# Altium schematic symbol library S7CAS-APP1.SchLib: 26 symbols
Pins are listed as number, name and electrical type; pins without a type are passive.

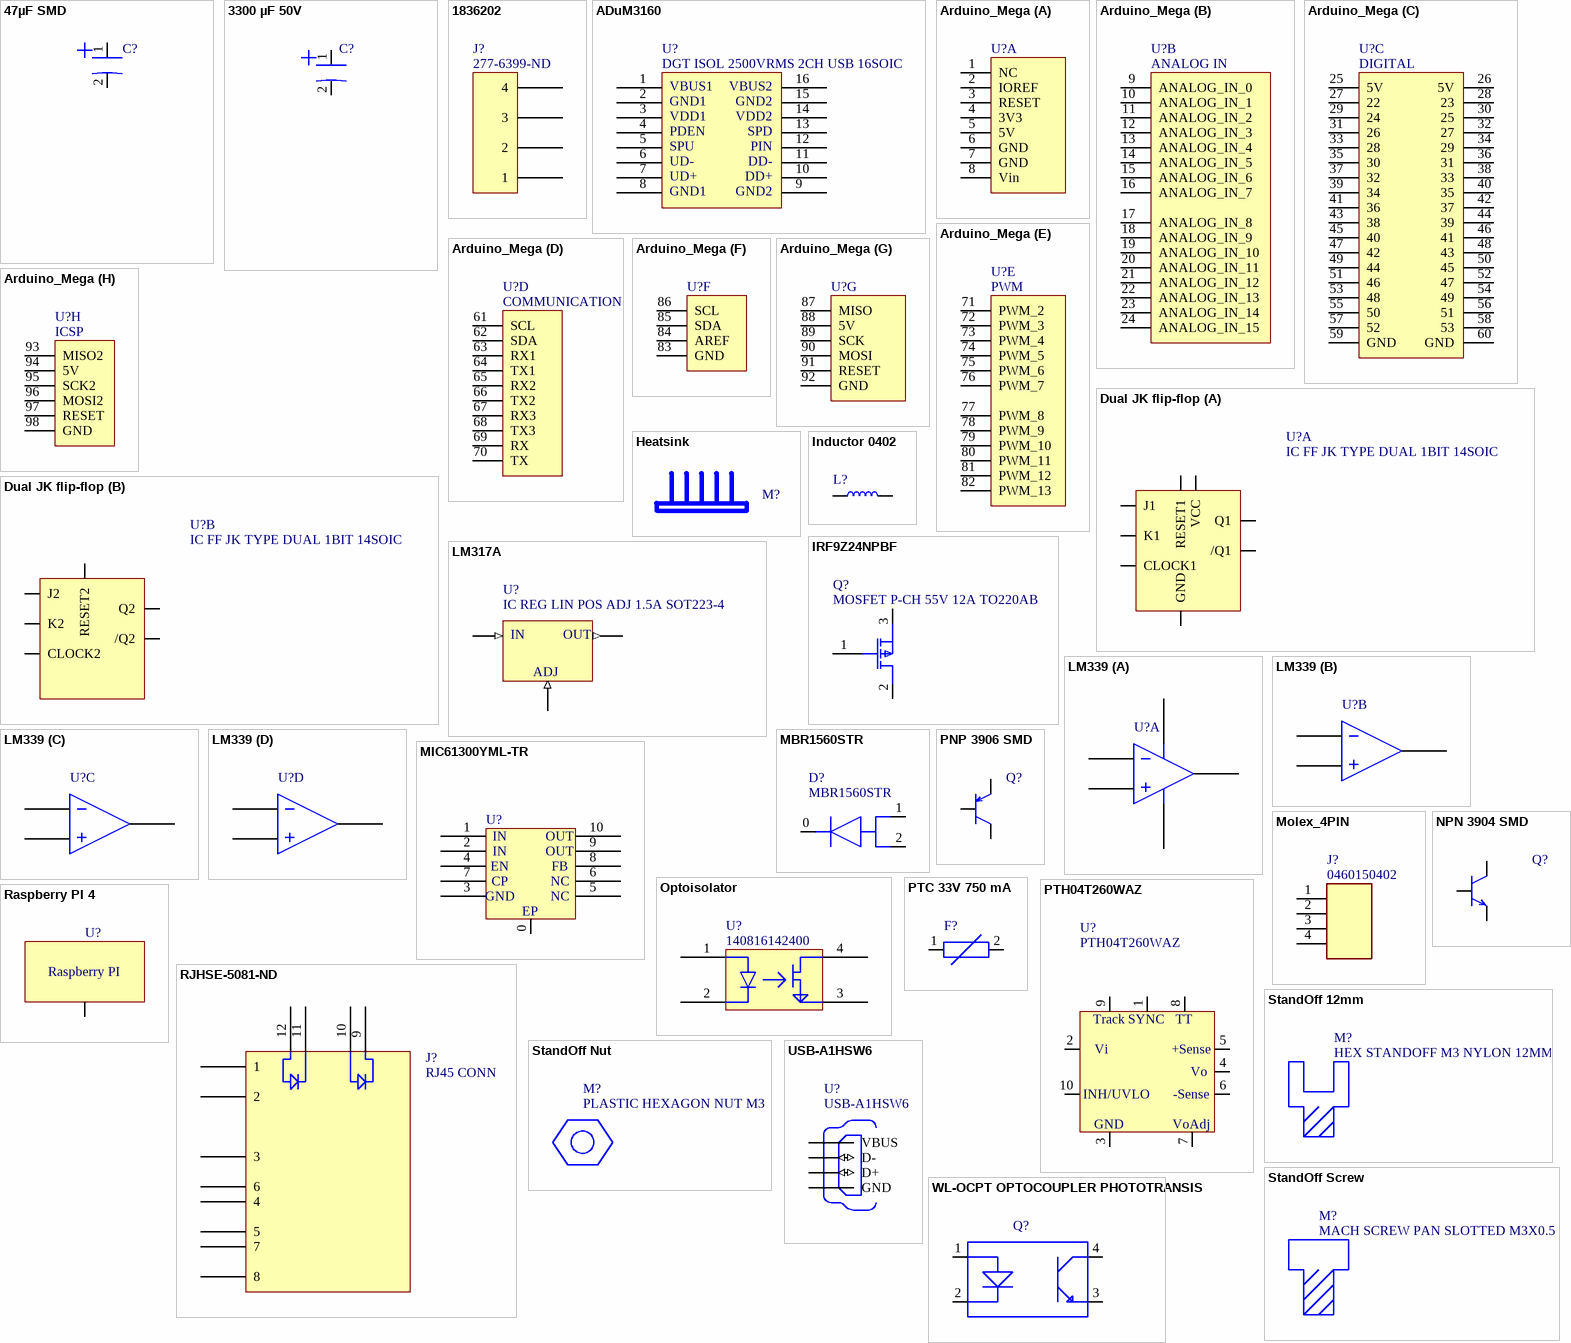
[diagram p0: symbols 47µF SMD to WL-OCPT OPTOCOUPLER PHOTOTRANSIS]

## 47µF SMD
designator C?, comment CAP ALUM POLY 47UF 20% 16V SMD  (value not drawn)
Mfg Part Number: 875105344006; Value: 47µF; Mfg: Würth Elektronik; Supplier 1: Digikey; Supplier Part Number 1: 732-6421-2-ND; HelpURL: https://www.we-online.de/katalog/datasheet/875105344006.pdf
footprint 47uF (CAP ALUM POLY 47UF 20% 16V SMD)
pins: 1, 2

## 3300 µF 50V
designator C?, comment CAP ALUM 3300UF 20% 50V SNAP  (value not drawn)
value: 3300µF; Supplier 1: Digi-Key; Supplier Part Number 1: 338-2545-ND; Voltage: 50V; tolerance: 20%
footprint 3300 uF 50V Cap (CAP ALUM 3300UF 20% 50V SNAP)
pins: 1, 2

## 1836202
designator J?, comment 277-6399-ND
TERM BLOCK HDR 4POS 90DEG 5.08MM; Mfg Part Number: 1836202; Mating: 277-6519-ND; Mfg: Phoenix Contact; Current: *; CreatedBy: Samuel Mathieu; Temperature: 0°C ~ 85°C (TJ); Value: *; Precision: *; Package: BGA-676; Supplier 1: Digikey; Supplier Part Number 1: 277-6399-ND
pins: 1, 2, 3, 4

## ADuM3160
designator U?, comment DGT ISOL 2500VRMS 2CH USB 16SOIC
USB Digital Isolator 2500Vrms 1 Channel 12Mbps 25kV/µs CMTI 16-SOIC (0.295", 7.50mm Width); Mfg Part Number: ADUM3160BRWZ-RL; Mfg: Analog Devices Inc.; Current: *; Power: *; HelpURL: https://www.analog.com/media/en/technical-documentation/data-sheets/ADuM3160.pdf; CreatedBy: Samuel Mathieu; Temperature: 0°C ~ 85°C (TJ); Value: *; Precision: *; Package: 16-SOIC; Supplier 1: Digikey; Supplier Part Number 1: ADUM3160BRWZ-RLCT-ND
footprint SOIC127P1030X265-16N (SOIC, 16-Leads, Body 10.30x7.50mm, Pitch 1.27mm, IPC Medium Density)
pins: 1, 2, 3, 4, 5, 6, 7, 8, 9, 10, 11, 12, 13, 14, 15, 16
text: VBUS1; VBUS2; GND1; GND2; VDD1; VDD2; PDEN; SPD; SPU; PIN; UD-; DD-; UD+; DD+

## Arduino_Mega
designator U?  (value not drawn)
footprint Arduino_Mega
part A pins: 1 NC, 2 IOREF, 3 RESET, 4 3V3, 5 5V, 6 GND, 7 GND, 8 Vin
part B pins: 9 ANALOG_IN_0, 10 ANALOG_IN_1, 11 ANALOG_IN_2, 12 ANALOG_IN_3, 13 ANALOG_IN_4, 14 ANALOG_IN_5, 15 ANALOG_IN_6, 16 ANALOG_IN_7, 17 ANALOG_IN_8, 18 ANALOG_IN_9, 19 ANALOG_IN_10, 20 ANALOG_IN_11, 21 ANALOG_IN_12, 22 ANALOG_IN_13, 23 ANALOG_IN_14, 24 ANALOG_IN_15
part C pins: 25 5V, 26 5V, 27 22, 28 23, 29 24, 30 25, 31 26, 32 27, 33 28, 34 29, 35 30, 36 31, 37 32, 38 33, 39 34, 40 35, 41 36, 42 37, 43 38, 44 39, 45 40, 46 41, 47 42, 48 43, 49 44, 50 45, 51 46, 52 47, 53 48, 54 49, 55 50, 56 51, 57 52, 58 53, 59 GND, 60 GND
part D pins: 61 SCL, 62 SDA, 63 RX1, 64 TX1, 65 RX2, 66 TX2, 67 RX3, 68 TX3, 69 RX, 70 TX
part E pins: 71 PWM_2, 72 PWM_3, 73 PWM_4, 74 PWM_5, 75 PWM_6, 76 PWM_7, 77 PWM_8, 78 PWM_9, 79 PWM_10, 80 PWM_11, 81 PWM_12, 82 PWM_13
part F pins: 83 GND, 84 AREF, 85 SDA, 86 SCL
part G pins: 87 MISO, 88 5V, 89 SCK, 90 MOSI, 91 RESET, 92 GND
part H pins: 93 MISO2, 94 5V, 95 SCK2, 96 MOSI2, 97 RESET, 98 GND
part B text: ANALOG IN
part C text: DIGITAL
part D text: COMMUNICATION
part E text: PWM
part H text: ICSP

## Dual JK flip-flop
designator U?, comment IC FF JK TYPE DUAL 1BIT 14SOIC
Flip Flop Element JK Type Bit Negative Edge 14-SOIC (0.154", 3.90mm Width)
footprint SOIC127P600X175-14N (SOIC, 14-Leads, Body 8.65x3.90mm, Pitch 1.27mm, IPC Medium Density)
part A pins: 1 CLOCK1, 2 RESET1, 3 K1, 4 VCC, 11 GND, 12 Q1, 13 /Q1, 14 J1
part B pins: 5 CLOCK2, 6 RESET2, 7 J2, 8 /Q2, 9 Q2, 10 K2

## Heatsink
designator M?, comment ATS-CPX035035035-180-C1-R0  (value not drawn)
Mfg: Advanced Thermal Solutions Inc.; Current: *; Power: *; Mfg Part Number: ATS-CPX035035035-180-C1-R0; CreatedBy: Samuel Mathieu; Temperature: 0°C ~ 85°C (TJ); Value: *; Precision: *; Supplier 1: Digikey; Supplier Part Number 1: ATS35967-ND
footprint ATS-CPX035035035-180-C1-R0

## Inductor 0402
designator L?, comment Standart package  (value not drawn)
Current: *; Power: *; Temperature: 0°C ~ 85°C (TJ); Value: *; Precision: *; Package: 0402
footprint FPGA_XILINX_FGG676
footprint 0402 (Standart 0402)
pins: 1, 2

## IRF9Z24NPBF
designator Q?, comment MOSFET P-CH 55V 12A TO220AB
Supplier 1: Digikey; Supplier Part Number 1: IRF9Z24NPBF-ND
footprint IRF9Z24NPBF
pins: 1 Gate, 2 Drain, 3 Source

## LM317A
designator U?, comment IC REG LIN POS ADJ 1.5A SOT223-4
footprint LM317A (IC REG LIN POS ADJ 1.5A SOT223-4)
footprint LM317A (IC REG LIN POS ADJ 1.5A SOT223-4)
pins: 1 ADJUST (in), 2 OUTPUT (out), 3 INPUT (in)
text: IN; OUT; ADJ

## LM339
designator U?
Comparator Quad ±16V/32V 14-Pin SOP T/R; Mfg Part Number: LM339F-E2; Manufacturer: Rohm; Voltage: 1.14 V ~ 1.26 V; Mfg: Rohm Semiconductor; Current: *; Power: *; HelpURL: https://d1d2qsbl8m0m72.cloudfront.net/en/products/databook/datasheet/ic/amp_linear/comparator/lm393f-e.pdf; CreatedBy: Samuel Mathieu; Temperature: -40°C ~ 85°C; Value: *; Precision: *; Package: BGA-676; Supplier 1: Digikey; Supplier Part Number 1: LM339F-E2TR-ND; Supplier 2: Digi-Key; Manufacturer Part Number: LM339F-E2; RoHS: Yes; Category: Comparators; Stock 2: 2211; Pricing 2: 1=0.96000, 10=0.84900, 25=0.79720, 100=0.65060, 250=0.60432, 500=0.51432, 1000=0.41145 (USD); RoHS Compliant: Yes; Supplier Part Number 2: LM339F-E2CT-ND
footprint SOP14 (SOP14 pour LM339)
part A pins: 2, 3, 4, 5, 12
part B pins: 1, 6, 7
part C pins: 8, 9, 14
part D pins: 10, 11, 13

## MBR1560STR
designator D?
DIODE SCHOTTKY 60V 15A TO277B; Mfg: SMC Diode Solutions; Current: *; Power: *; Mfg Part Number: MBR1560STR; HelpURL: http://www.smc-diodes.com/propdf/MBR1560S%20N1378%20REV.B.pdf; CreatedBy: Samuel Mathieu; Value: *; Precision: *; Package: BGA-676; Supplier 1: Digikey; Supplier Part Number 1: 1655-2290-1-ND
footprint MBR1560STR
pins: 0, 1, 2

## MIC61300YML-TR
designator U?
IC REG LINEAR POS ADJ 3A 10MLF; Mfg Part Number: MIC61300YML-TR; Voltage: 1.14 V ~ 1.26 V; Mfg: Microchip Technology; Current: *; Power: *; HelpURL: https://ww1.microchip.com/downloads/en/DeviceDoc/mic61300.pdf; CreatedBy: Samuel Mathieu; Temperature: -40°C ~ 85°C (TJ); Value: *; Precision: *; Package: 10-VFDFN; Supplier 1: Digikey; Supplier Part Number 1: 576-3767-1-ND
footprint MIC61300YML-TR
pins: 0, 1, 2, 3, 4, 5, 6, 7, 8, 9, 10
text: IN; OUT; EN; FB; CP; NC; GND; EP

## Molex_4PIN
designator J?, comment 0460150402
Supplier 1: Digi-Key; Supplier Part Number 1: WM14613-ND
footprint Molex_4PIN (0460150402)
pins: 1, 2, 3, 4

## NPN 3904 SMD
designator Q?, comment TRANS NPN 40V 0.2A SOT23  (value not drawn)
Transistor: 200mA 200mW NPN General-Purpose Amplifier, SOT-23, 7IN. Reel; Manufacturer: MCC; Manufacturer Part Number: MMBT3904-TP; Max Power Dissipation: 350mW; Number of Elements: 1; hFE Min: 40; Frequency: 300MHz; Collector Base Voltage (VCBO): 60V; Emitter Base Voltage (VEBO): 6V; Collector Emitter Saturation Voltage: 300mV; Element Configuration: Single; Current Rating: 100mA; Supplier 1: Digi-Key; RoHS: Yes; Category: BJTs; Stock 1: 949449; Pricing 1: 1=0.10000, 10=0.08100, 25=0.07680, 100=0.04400, 500=0.02706, 1000=0.01844 (USD); Mount: Surface Mount; Case/Package: SOT-23; Number of Pins: 3; Min Operating Temperature: -55°C; Max Operating Temperature: 150°C; Package Quantity: 1; Collector Emitter Voltage (VCEO): 40V; Packaging: Tape and Reel; Max Collector Current: 200mA; Transition Frequency: 300MHz; Collector Emitter Breakdown Voltage: 40V; Polarity: NPN; Max Breakdown Voltage: 40V; Power Dissipation: 350mW; Max Frequency: 300MHz; Gain Bandwidth Product: 300MHz; Voltage Rating (DC): 40V; Series: -; Collector-emitter Voltage-Max: 300mV; Length: 3.04mm; Width: 1.4mm; Height: 1.12mm; Radiation Hardening: No; Lead Free: Lead Free; RoHS Compliant: Yes; ComponentLink1URL: https://datasheet.ciiva.com/972/mmbt3904sot-23-972515.pdf?src-supplier=Digi-Key; ComponentLink1Description: https://datasheet.ciiva.com/972/mmbt3904sot-23-972515.pdf?src-supplier=Digi-Key; ComponentLink2URL: https://datasheet.ciiva.com/16291/mmbt3904sot-23-37005-16291911.pdf?src-supplier=Mouser; ComponentLink2Description: https://datasheet.ciiva.com/16291/mmbt3904sot-23-37005-16291911.pdf?src-supplier=Mouser; ComponentLink3URL: https://datasheet.ciiva.com/15139/getdatasheetpartid-251950-15139820.pdf?src-supplier=Verical; ComponentLink3Description: https://datasheet.ciiva.com/15139/getdatasheetpartid-251950-15139820.pdf?src-supplier=Verical; ComponentLink4URL: https://datasheet.ciiva.com/972/mmbt3904sot-23-972516.pdf?src-supplier=Digi-Key; ComponentLink4Description: https://datasheet.ciiva.com/972/mmbt3904sot-23-972516.pdf?src-supplier=Digi-Key; ComponentLink5URL: https://datasheet.ciiva.com/16742/mmbt3904tsot-523-16742101.pdf?src-supplier=Future+Electronics; ComponentLink5Description: https://datasheet.ciiva.com/16742/mmbt3904tsot-523-16742101.pdf?src-supplier=Future+Electronics; ComponentLink6URL: https://datasheet.ciiva.com/14546/70055699-14546053.pdf?src-supplier=Allied+Electronics; ComponentLink6Description: https://datasheet.ciiva.com/14546/70055699-14546053.pdf?src-supplier=Allied+Electronics
footprint SOT-23 (SOT23, 3-Leads, Body 2.90x2.45mm, Pitch 0.95mm, IPC Medium Density)
pins: 1, 2, 3

## Optoisolator
designator U?, comment 140816142400
Optoisolator Transistor Output 5000Vrms 1 Channel 4-DIP-S; Mfg Part Number: XC6SLX100-3FGG676C; Mfg: Würth Elektronik; Current: *; Power: *; CreatedBy: Samuel Mathieu; Value: *; Precision: *; Package: BGA-676; Supplier 1: Digikey; Supplier Part Number 1: 732-140816142400CT-ND
footprint SOP254P1030X430-4N (SOP, 4-Leads, Body 4.58x6.50mm, Pitch 2.54mm, IPC Medium Density)
pins: 1, 2, 3, 4

## PNP 3906 SMD
designator Q?, comment TRANS PNP 40V 0.2A SOT23  (value not drawn)
Trans GP BJT PNP 40V 0.2A 3-Pin SOT-23 T/R; Manufacturer: MCC; Manufacturer Part Number: MMBT3906-TP; Number of Elements: 1; hFE Min: 60; Max Power Dissipation: 300mW; Frequency: 250MHz; Max Collector Current: 200mA; Emitter Base Voltage (VEBO): 5V; Collector Emitter Saturation Voltage: -250mV; Element Configuration: Single; Current Rating: -2A; Voltage Rating (DC): -40V; Collector-emitter Voltage-Max: 400mV; Supplier 1: Digi-Key; RoHS: Yes; Category: BJTs; Stock 1: 96763; Pricing 1: 1=0.14000, 10=0.09700, 25=0.09320, 100=0.05250, 500=0.04122, 1000=0.02862 (USD); Mount: Surface Mount; Case/Package: SOT-23; Number of Pins: 3; Min Operating Temperature: -55°C; Max Operating Temperature: 150°C; Package Quantity: 1; Collector Emitter Voltage (VCEO): 40V; Packaging: Tape and Reel; Transition Frequency: 250MHz; Collector Emitter Breakdown Voltage: 40V; Max Breakdown Voltage: 40V; Polarity: PNP; Collector Base Voltage (VCBO): 40V; Power Dissipation: 300mW; Max Frequency: 250MHz; Gain Bandwidth Product: 250MHz; Series: -; Length: 3.04mm; Width: 1.4mm; Height: 1.12mm; Radiation Hardening: No; Lead Free: Lead Free; ComponentLink1URL: https://datasheet.ciiva.com/6362/mmbt3906sot-23-6362513.pdf?src-supplier=Digi-Key; ComponentLink1Description: https://datasheet.ciiva.com/6362/mmbt3906sot-23-6362513.pdf?src-supplier=Digi-Key; ComponentLink2URL: https://datasheet.ciiva.com/15200/getdatasheetpartid-321202-15200524.pdf?src-supplier=Verical; ComponentLink2Description: https://datasheet.ciiva.com/15200/getdatasheetpartid-321202-15200524.pdf?src-supplier=Verical; Supplier Part Number 1: MMBT3906-TPCT-ND
footprint SOT-23 (SOT23, 3-Leads, Body 2.90x2.45mm, Pitch 0.95mm, IPC Medium Density)
pins: 1, 2, 3

## PTC 33V 750 mA
designator F?, comment 0ZCG0075BF2B  (value not drawn)
Max Voltage: 33V; Hold Current: 750mA; Supplier 1: Digi-Key; Supplier Part Number 1: 507-1765-1-ND
footprint 1812 (4532 Metric)
pins: 1, 2

## PTH04T260WAZ
designator U?
DC DC CONVERTER 0.69-3.6V; Voltage: 1.14 V ~ 1.26 V; Mfg: Texas Instruments; Current: *; Power: *; Mfg Part Number: PTH04T260WAZ; HelpURL: https://www.ti.com/lit/ds/symlink/pth04t261w.pdf?HQS=dis-dk-null-digikeymode-dsf-pf-null-wwe&ts=1612197415933; CreatedBy: Samuel Mathieu; Value: *; Precision: *; Supplier 1: Digikey; Supplier Part Number 1: 296-21798-ND
pins: 1, 2, 3, 4, 5, 6, 7, 8, 9, 10
text: Track; SYNC; TT; Vi; +Sense; Vo; INH/UVLO; -Sense; GND; VoAdj

## Raspberry PI 4
designator U?  (value not drawn)
footprint Raspberry Pi 4
pins: 0
text: Raspberry PI

## RJHSE-5081-ND
designator J?, comment RJ45 CONN
Connecteur RJ-45 Standart; Current: *; Power: *; CreatedBy: Samuel Mathieu; Value: *; Precision: *; Package: BGA-676; Supplier 1: Digikey; Supplier Part Number 1: RJHSE-5081-ND
footprint RJ-45 (RJHSE-5081)
pins: 1, 2, 3, 4, 5, 6, 7, 8, 9, 10, 11, 12

## StandOff 12mm
designator M?, comment HEX STANDOFF M3 NYLON 12MM
Supplier 1: Digi-Key; Supplier Part Number 1: 36-25502-ND; Quantity: *

## StandOff Nut
designator M?, comment PLASTIC HEXAGON NUT M3
Supplier 1: Digi-Key; Supplier Part Number 1: 732-12637-ND; Quantity: *

## StandOff Screw
designator M?, comment MACH SCREW PAN SLOTTED M3X0.5
Supplier 1: Digi-Key; Supplier Part Number 1: 36-29341-ND; Quantity: *

## USB-A1HSW6
designator U?
Mfg: On Shore Technology Inc.; Current: *; Power: *; Mfg Part Number: USB-A1HSW6; CreatedBy: Samuel Mathieu; Temperature: 0°C ~ 85°C (TJ); Value: *; Precision: *; Package: BGA-676; Supplier 1: Digikey; Supplier Part Number 1: ED2989-ND
footprint USB-A1HSW6 (USB CONN)
pins: 1 VBUS (power), 2 D- (io), 3 D+ (io), 4 GND (power)

## WL-OCPT OPTOCOUPLER PHOTOTRANSIS
designator Q?  (value not drawn)
Optoisolator Transistor Output 3750Vrms 1 Channel 4-SOP; Supplier 1: Digi-Key; Supplier Part Number 1: 732-140357145400CT-ND
footprint WL-OCPT OPTOCOUPLER PHOTOTRANSIS
pins: 1, 2, 3, 4